# Altium integrated library Infineon_Power_IGBT.IntLib: 226 symbols (part 6 of 8)
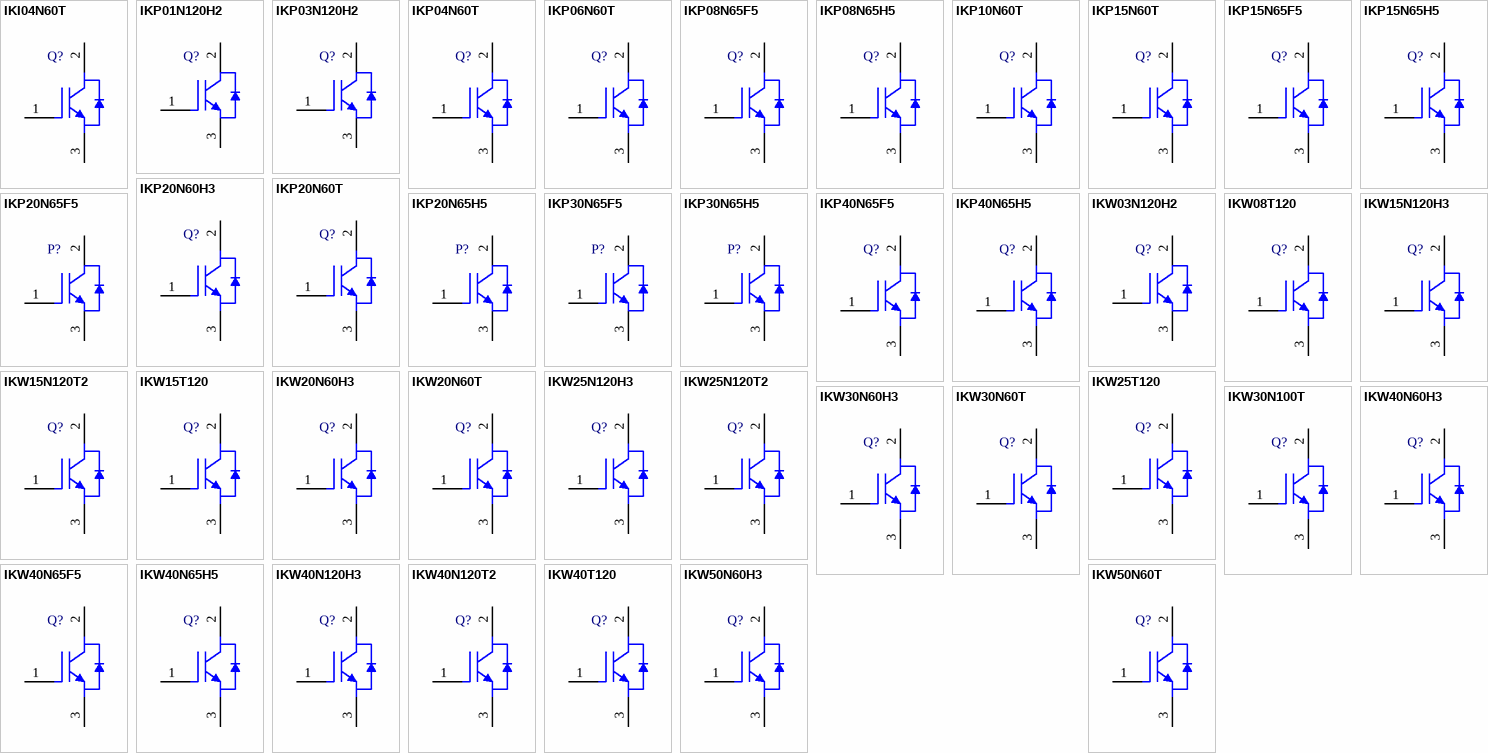
[diagram p10: symbols IKI04N60T to IKW50N60T]

## IKW50N60T
designator Q?
600 V IGBT in TrenchStop and Fieldstop Technology with Soft, Fast Recovery Anti-Parallel EmCon HE Diode, 80 A IC, -40 to 175 degC, PG-TO247-3, Tube, Green; Manufacturer: Infineon; PartNumber: IKW50N60T; Eoff (typ): 1.4 mJ; Eon (typ): 1.2 mJ; Green: TRUE; Group: IGBT with Anti-Parallel Diode; IC(max) @ 100degrees: 50 A; IC(max) @ 25degrees: 80 A; ICpuls (max): 150 A; IF (max): 100 A; Irrm (typ): 27.7 A; Ptot (max): 333 W; QGate (typ): 310 nC; Qrr (typ): 1.8 uC; Switching Frequency: TRENCHSTOP 2-20kHz; td(off) (typ): 299 ns; td(on) (typ): 26 ns; tf (typ): 29 ns; VCE (max): 600 V; VCE(sat) (typ): 1.5 V; VF (typ): 1.65 V; DatasheetVersion: Rev. 2.4; PackageVersion: Rev. 03, 12/2007; PackageReference: PG-TO247-3; PackageDescription: 3-Pin Plastic (Green) Transistor Single Outline Package, Body 20.96 x 15.865 mm, Pitch 5.44 mm; Supplier 1: Mouser; Supplier Part Number 1: 726-IKW50N60T; Supplier 2: Newark; Supplier Part Number 2: 61M6736; Supplier 3: Farnell; Supplier Part Number 3: 1471750; Supplier 4: Digi-Key; Supplier Part Number 4: IKW50N60T-ND; Halogen-free: available; IFpuls (max): 150 A; Packing: Tube; tr (typ): 29 ns; Mounting Technology: Through Hole; ComponentLink1Description: Manufacturer URL; ComponentLink1URL: http://www.infineon.com/; ComponentLink2Description: Datasheet; ComponentLink2URL: http://www.infineon.com/dgdl/IKW50N60T+Rev2_4G.pdf?folderId=db3a304412b407950112b408e8c90004&fileId=db3a304412b407950112b4288ce93e21; ComponentLink3Description: Package Specification; ComponentLink3URL: http://www.infineon.com/dgdl/IKW15T120_Rev2G_3.pdf?folderId=db3a304412b407950112b408e8c90004&fileId=db3a304412b407950112b42896343e2d&location=en.Products.IGBTs.IGBT_with_Anti-Parallel_Diode.TRENCHSTOP__IGBT_for_Hard_Switching.DATASHEET.IKW15T120_Rev2G_3.pdf
footprint INF-PG-TO247-3_V (FM, 3-Leads, Body 20.96x15.865mm, Pitch 5.44mm, Recommended)
pins: 1 G, 2 C, 3 E

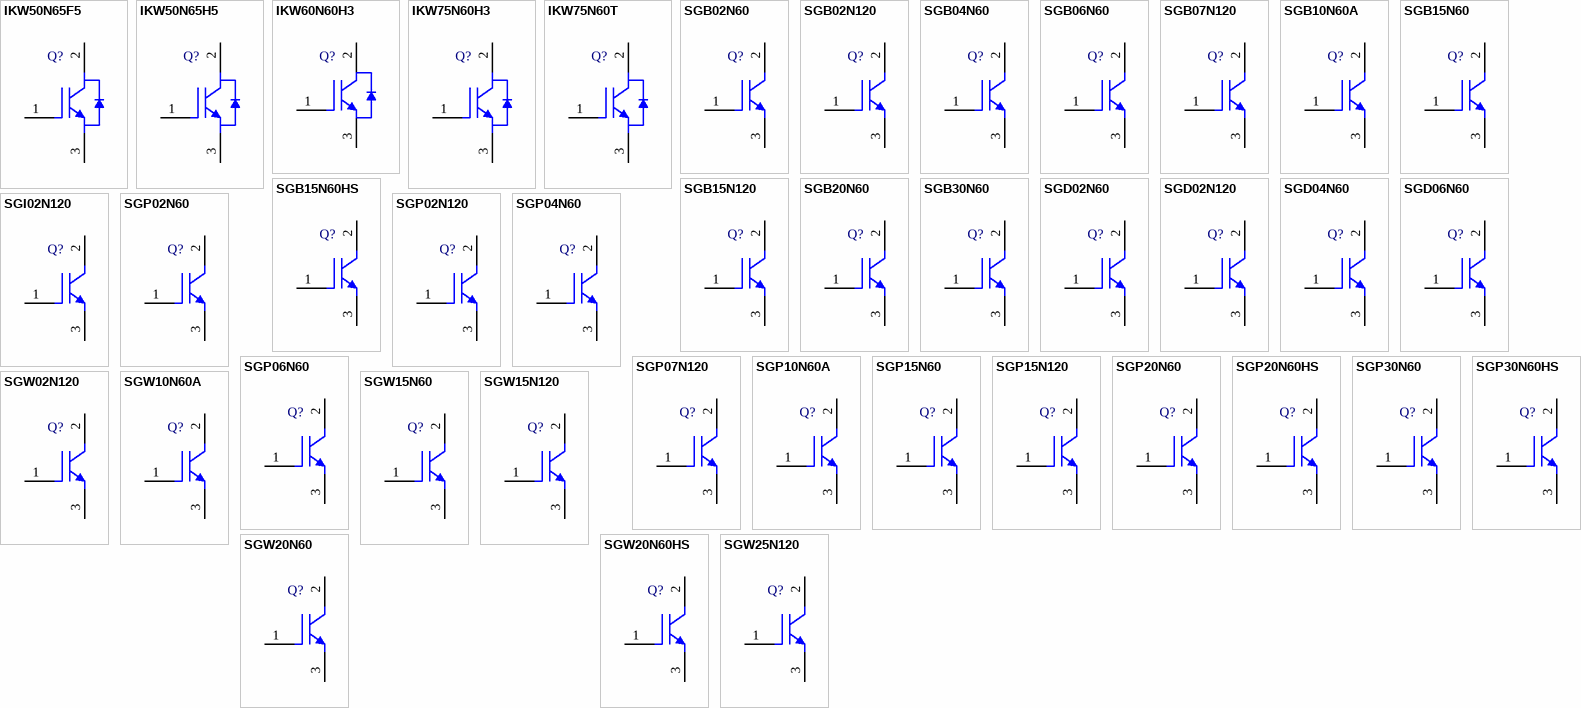
[diagram p4: symbols IKW50N65F5 to SGW25N120]

## IKW50N65F5
designator Q?
650 V DuoPack IGBT and Diode High Speed Switching Series Fifth Generation, 80 A IC, PG-TO247-3-44, Tube, Green; Manufacturer: Infineon; PartNumber: IKW50N65F5; Green: TRUE; Group: IGBT with Anti-Parallel Diode; IC(max)@ 100degrees: 56 A; IC(max)@ 25degrees: 80 A; ICpuls(max): 150 A; Irrm (typ): 16.5 A; Ptot(max): 305 W; Switching Frequency: TRENCHSTOP5 10-120 kHz; VCE(max): 650 V; VCE(sat)(typ): 1.6 V; DatasheetVersion: Rev. 1.1; PackageVersion: Rev. 03; PackageReference: PG-TO247-3-44; PackageDescription: 3-Pin Plastic (Green) Transistor Single Outline Package, 15.94 x 20.95 mm Body, 5.44 mm Pitch; Supplier 1: Newark; Supplier Part Number 1: 33X0415; Supplier 2: Farnell; Supplier Part Number 2: 2363295; Halogen-free: available; Packing: Tube; Mounting Technology: Through Hole; ComponentLink1Description: Manufacturer URL; ComponentLink1URL: http://www.infineon.com/; ComponentLink2Description: Datasheet; ComponentLink2URL: http://www.infineon.com/dgdl/DS_IKW50N65F5_1_1.pdf?folderId=db3a3043156fd5730115f56849b61941&fileId=db3a30433afc7e3e013afe09fcdb00e5&location=en.Products.IGBTs.IGBT_with_Anti-Parallel_Diode.TRENCHSTOP_5.DATASHEET.DS_IKW50N65F5_1_1.pdf; ComponentLink3Description: Package Specification; ComponentLink3URL: http://www.infineon.com/cms/packages/Leaded_and_through-hole/P-PG-TO247/P-PG-TO247-3-44.html?__locale=en
footprint INF-PG-TO247-3-44 (FM, 3-Leads, Body 5.02x15.94mm, Pitch 5.44mm)
pins: 1 G, 2 C, 3 E

## IKW50N65H5
designator Q?
650 V DuoPack IGBT and Diode High Speed Switching Series Fifth Generation, 80 A IC, PG-TO247-3-44, Tube, Green; Manufacturer: Infineon; PartNumber: IKW50N65H5; Green: TRUE; Group: IGBT with Anti-Parallel Diode; IC(max)@ 100degrees: 56 A; IC(max)@ 25degrees: 80 A; ICpuls(max): 150 A; Irrm (typ): 16.7 A; Ptot(max): 305 W; Switching Frequency: TRENCHSTOP5 10-120 kHz; VCE(max): 650 V; VCE(sat)(typ): 1.65 V; DatasheetVersion: Rev. 1.1; PackageVersion: Rev. 03; PackageReference: PG-TO247-3-44; PackageDescription: 3-Pin Plastic (Green) Transistor Single Outline Package, 15.94 x 20.95 mm Body, 5.44 mm Pitch; Supplier 1: Newark; Supplier Part Number 1: 33X0416; Supplier 2: Farnell; Supplier Part Number 2: 2363296; Halogen-free: available; Packing: Tube; Mounting Technology: Through Hole; ComponentLink1Description: Manufacturer URL; ComponentLink1URL: http://www.infineon.com/; ComponentLink2Description: Datasheet; ComponentLink2URL: http://www.infineon.com/dgdl/DS_IKW50N65H5_1_1.pdf?folderId=db3a3043156fd5730115f56849b61941&fileId=db3a30433afc7e3e013b1e3073ec5951&location=en.Products.IGBTs.IGBT_with_Anti-Parallel_Diode.TRENCHSTOP_5.DATASHEET.DS_IKW50N65H5_1_1.pdf; ComponentLink3Description: Package Specification; ComponentLink3URL: http://www.infineon.com/cms/packages/Leaded_and_through-hole/P-PG-TO247/P-PG-TO247-3-44.html?__locale=en
footprint INF-PG-TO247-3-44 (FM, 3-Leads, Body 5.02x15.94mm, Pitch 5.44mm)
pins: 1 G, 2 C, 3 E

## IKW60N60H3
designator Q?
600 V High Speed Switching Series Third Generation, PG-TO247-3-44, Tube, Green; Manufacturer: Infineon; PartNumber: IKW60N60H3; Green: TRUE; IC(max) @ 25 degC: 80 A; Switching Frequency: HighSpeed3 20-100kHz; VCE (max): 600 V; VCE(sat) (typ): 1.85 V; DatasheetVersion: Rev. 1.2; PackageVersion: Rev. 05, 07/2010; PackageReference: PG-TO247-3-44_A; PackageDescription: 3-Pin Plastic (Green) Transistor Single Outline Package, Body 15.915 x 20.95 mm, Pitch 5.44 mm; Halogen-free: FALSE; Packing: Tube; Mounting Technology: Through Hole; ComponentLink1Description: Manufacturer URL; ComponentLink1URL: http://www.infineon.com/; ComponentLink2Description: Datasheet; ComponentLink2URL: http://www.infineon.com/dgdl/IKW60N60H3_1_2.pdf?folderId=db3a3043156fd5730115f56849b61941&fileId=db3a304339dcf4b10139dd87e517004f; ComponentLink3Description: Package Specification; ComponentLink3URL: http://www.infineon.com/dgdl/IDW10S120_Rev+2.pdf?folderId=db3a304314dca38901151224afae0c96&fileId=db3a304336724dc40136789691a04aa5
footprint INF-PG-TO247-3-44_A (FM, 3-Leads, Body 15.915x5.02mm, Pitch 5.44mm)
pins: 1 G, 2 C, 3 E

## IKW75N60H3
designator Q?
600 V High Speed Switching Series Third Generation, 80 A IC, -40 to 175 degC, PG-TO247-3-44, Tube, Green; Manufacturer: Infineon; PartNumber: IKW75N60H3; Eoff (typ): 1.7 mJ; Eon (typ): 3 mJ; Green: TRUE; IC(max) @ 100degrees: 75 A; IC(max) @ 25degrees: 80 A; ICpuls (max): 225 A; IF (max): 80 A; IFpuls (max): 150 A; Irrm (typ): 19 A; QGate (typ): 470 nC; Qrr (typ): 1.8 uC; Switching Frequency: HighSpeed3 20-100kHz; td(off) (typ): 265 ns; td(on) (typ): 31 ns; tf (typ): 27 ns; tr (typ): 60 ns; VCE (max): 600 V; VCE(sat) (typ): 1.85 V; VF (typ): 1.65 V; DatasheetVersion: Rev. 1.2; PackageVersion: Rev. 03; PackageReference: PG-TO247-3-44; PackageDescription: 3-Pin Plastic (Green) Transistor Single Outline Package, 15.94 x 20.95 mm Body, 5.44 mm Pitch; Halogen-free: available; Packing: Tube; Mounting Technology: Through Hole; ComponentLink1Description: Manufacturer URL; ComponentLink1URL: http://www.infineon.com/; ComponentLink2Description: Datasheet; ComponentLink2URL: http://www.infineon.com/dgdl/IKW75N60H3_Rev1_2.pdf?folderId=db3a3043156fd5730115f56849b61941&fileId=db3a3043353cc43601353d2e3ee60056; ComponentLink3Description: Package Specification; ComponentLink3URL: http://www.infineon.com/cms/packages/Leaded_and_through-hole/P-PG-TO247/P-PG-TO247-3-44.html?__locale=en
footprint INF-PG-TO247-3-44 (FM, 3-Leads, Body 5.02x15.94mm, Pitch 5.44mm)
pins: 1 G, 2 C, 3 E

## IKW75N60T
designator Q?
600 V IGBT in TrenchStop and Fieldstop Technology with Soft, Fast Recovery Anti-Parallel EmCon HE Diode, 80 A IC, -40 to 175 degC, PG-TO247-3, Tube, Green; Manufacturer: Infineon; PartNumber: IKW75N60T; Eoff (typ): 2.5 mJ; Eon (typ): 2 mJ; Green: TRUE; Group: IGBT with Anti-Parallel Diode; IC(max) @ 100degrees: 75 A; IC(max) @ 25degrees: 80 A; ICpuls (max): 225 A; Irrm (typ): 38.5 A; Ptot (max): 428 W; QGate (typ): 470 nC; Qrr (typ): 2.4 uC; Switching Frequency: TRENCHSTOP 2-20kHz; td(off) (typ): 330 ns; td(on) (typ): 33 ns; tf (typ): 35 ns; tr (typ): 36 ns; VCE (max): 600 V; VCE(sat) (typ): 1.5 V; VF (typ): 1.65 V; DatasheetVersion: Rev. 2.6; PackageVersion: Rev. 03, 12/2007; PackageReference: PG-TO247-3; PackageDescription: 3-Pin Plastic (Green) Transistor Single Outline Package, Body 20.96 x 15.865 mm, Pitch 5.44 mm; Supplier 1: Mouser; Supplier Part Number 1: 726-IKW75N60T; Supplier 2: Newark; Supplier Part Number 2: 61M6737; Supplier 3: Farnell; Supplier Part Number 3: 1471751; Supplier 4: Digi-Key; Supplier Part Number 4: IKW75N60T-ND; Halogen-free: available; IF (max): 80 A; IFpuls (max): 225 A; Packing: Tube; Mounting Technology: Through Hole; ComponentLink1Description: Manufacturer URL; ComponentLink1URL: http://www.infineon.com/; ComponentLink2Description: Datasheet; ComponentLink2URL: http://www.infineon.com/dgdl/IKW75N60T+Rev2_6G.pdf?folderId=db3a304412b407950112b408e8c90004&fileId=db3a304412b407950112b42890113e25; ComponentLink3Description: Package Specification; ComponentLink3URL: http://www.infineon.com/dgdl/IKW15T120_Rev2G_3.pdf?folderId=db3a304412b407950112b408e8c90004&fileId=db3a304412b407950112b42896343e2d&location=en.Products.IGBTs.IGBT_with_Anti-Parallel_Diode.TRENCHSTOP__IGBT_for_Hard_Switching.DATASHEET.IKW15T120_Rev2G_3.pdf
footprint INF-PG-TO247-3_V (FM, 3-Leads, Body 20.96x15.865mm, Pitch 5.44mm, Recommended)
pins: 1 G, 2 C, 3 E

## SGB02N60
designator Q?
Fast IGBT in NPT-Technology, PG-TO-263-3-2, Reel, Green; Manufacturer: Infineon; PartNumber: SGB02N60; Green: TRUE; IC(max) @ 100 degC: 2.9 A; IC(max) @ 25 degC: 6 A; Switching Frequency: Fast IGBT 10-40 kHz; VCE (max): 600 V; VCE(sat) (typ): 2.2 V; DatasheetVersion: Rev. 2.3; PackageVersion: Rev. 01, 08/2007; PackageReference: PG-TO-263-3-2; PackageDescription: 3-Pin Plastic (Green) Transistor Single Outline Package, 10.06 x 8.98 mm Body, 2.54 mm Pitch; Supplier 1: Mouser; Supplier Part Number 1: 726-SGB02N60; Supplier 2: Digi-Key; Supplier Part Number 2: SGB02N60-ND; Halogen-free: TRUE; Packing: Reel; Mounting Technology: Surface Mount; ComponentLink1Description: Manufacturer URL; ComponentLink1URL: http://www.infineon.com/; ComponentLink2Description: Datasheet; ComponentLink2URL: http://www.infineon.com/dgdl/SGB02N60_Rev2_3.pdf?folderId=db3a304412b407950112b408e8c90004&fileId=db3a304412b407950112b4283ffb3daa; ComponentLink3Description: Package Specification; ComponentLink3URL: http://www.infineon.com/dgdl/IPB026N06N_Rev2.2.pdf?folderId=db3a304313b8b5a60113cee8763b02d7&fileId=db3a3043372d5cc8013754c7b2a74f7c
footprint INF-PG-TO-263-3-2_A_N (DPAK, 3-Leads, Body 10.06x8.98mm, Pitch 2.54mm, IPC Medium Density)
footprint INF-PG-TO-263-3-2_A_L (DPAK, 3-Leads, Body 10.06x8.98mm, Pitch 2.54mm, IPC High Density)
footprint INF-PG-TO-263-3-2_A_M (DPAK, 3-Leads, Body 10.06x8.98mm, Pitch 2.54mm, IPC Low Density)
pins: 1 G, 2 C, 3 E

## SGB02N120
designator Q?
Fast IGBT in NPT-Technology, PG-TO-263-3-2, Reel, Green; Manufacturer: Infineon; PartNumber: SGB02N120; Green: TRUE; IC(max) @ 100 degC: 2.8 A; IC(max) @ 25 degC: 6.2 A; Switching Frequency: Fast IGBT 10-40 kHz; VCE (max): 1,200 V; VCE(sat) (typ): 3.7 V; DatasheetVersion: Rev. 2.3; PackageVersion: Rev. 01, 08/2007; PackageReference: PG-TO-263-3-2; PackageDescription: 3-Pin Plastic (Green) Transistor Single Outline Package, 10.06 x 8.98 mm Body, 2.54 mm Pitch; Supplier 1: Mouser; Supplier Part Number 1: 726-SGB02N120; Supplier 2: Digi-Key; Supplier Part Number 2: SGB02N120TR-ND; Supplier 3: Digi-Key; Supplier Part Number 3: SGB02N120CT-ND; Supplier 4: Digi-Key; Supplier Part Number 4: SGB02N120DKR-ND; Halogen-free: TRUE; Packing: Reel; Mounting Technology: Surface Mount; ComponentLink1Description: Manufacturer URL; ComponentLink1URL: http://www.infineon.com/; ComponentLink2Description: Datasheet; ComponentLink2URL: http://www.infineon.com/dgdl/SGB02N120_Rev2_3.pdf?folderId=db3a304412b407950112b408e8c90004&fileId=db3a304412b407950112b42799e03c76; ComponentLink3Description: Package Specification; ComponentLink3URL: http://www.infineon.com/dgdl/IPB026N06N_Rev2.2.pdf?folderId=db3a304313b8b5a60113cee8763b02d7&fileId=db3a3043372d5cc8013754c7b2a74f7c
footprint INF-PG-TO-263-3-2_A_N (DPAK, 3-Leads, Body 10.06x8.98mm, Pitch 2.54mm, IPC Medium Density)
footprint INF-PG-TO-263-3-2_A_L (DPAK, 3-Leads, Body 10.06x8.98mm, Pitch 2.54mm, IPC High Density)
footprint INF-PG-TO-263-3-2_A_M (DPAK, 3-Leads, Body 10.06x8.98mm, Pitch 2.54mm, IPC Low Density)
pins: 1 G, 2 C, 3 E

## SGB04N60
designator Q?
Fast IGBT in NPT-Technology, PG-TO-263-3-2, Reel, Green; Manufacturer: Infineon; PartNumber: SGB04N60; Green: TRUE; IC(max) @ 100 degC: 4.9 A; IC(max) @ 25 degC: 9.4 A; Switching Frequency: Fast IGBT 10-40 kHz; VCE (max): 600 V; VCE(sat) (typ): 2 V; DatasheetVersion: Rev. 2.3; PackageVersion: Rev. 01, 08/2007; PackageReference: PG-TO-263-3-2; PackageDescription: 3-Pin Plastic (Green) Transistor Single Outline Package, 10.06 x 8.98 mm Body, 2.54 mm Pitch; Supplier 1: Mouser; Supplier Part Number 1: 726-SGB04N60; Halogen-free: FALSE; Packing: Reel; Mounting Technology: Surface Mount; ComponentLink1Description: Manufacturer URL; ComponentLink1URL: http://www.infineon.com/; ComponentLink2Description: Datasheet; ComponentLink2URL: http://www.infineon.com/dgdl/SGB04N60_Rev2_3.pdf?folderId=db3a304412b407950112b408e8c90004&fileId=db3a304412b407950112b4283a793da2; ComponentLink3Description: Package Specification; ComponentLink3URL: http://www.infineon.com/dgdl/IPB026N06N_Rev2.2.pdf?folderId=db3a304313b8b5a60113cee8763b02d7&fileId=db3a3043372d5cc8013754c7b2a74f7c
footprint INF-PG-TO-263-3-2_A_N (DPAK, 3-Leads, Body 10.06x8.98mm, Pitch 2.54mm, IPC Medium Density)
footprint INF-PG-TO-263-3-2_A_L (DPAK, 3-Leads, Body 10.06x8.98mm, Pitch 2.54mm, IPC High Density)
footprint INF-PG-TO-263-3-2_A_M (DPAK, 3-Leads, Body 10.06x8.98mm, Pitch 2.54mm, IPC Low Density)
pins: 1 G, 2 C, 3 E

## SGB06N60
designator Q?
Fast IGBT in NPT-Technology, PG-TO263-3-2, Reel, Green; Manufacturer: Infineon; PartNumber: SGB06N60; Green: TRUE; IC(max) @ 100 degC: 6.9 A; IC(max) @ 25 degC: 12 A; Switching Frequency: Fast IGBT 10-40 kHz; VCE (max): 600 V; VCE(sat) (typ): 2.3 V; DatasheetVersion: Rev. 2.2; PackageVersion: Jul-09; PackageReference: PG-TO263-3-2; PackageDescription: 3-Pin Plastic (Green) Transistor Single Outline Package, 10 x 9.25 mm Body, 2.54 mm Pitch; Supplier 1: Mouser; Supplier Part Number 1: 726-SGB06N60; Supplier 2: Digi-Key; Supplier Part Number 2: SGB06N60-ND; Halogen-free: TRUE; Packing: Reel; Mounting Technology: Surface Mount; ComponentLink1Description: Manufacturer URL; ComponentLink1URL: http://www.infineon.com/; ComponentLink2Description: Datasheet; ComponentLink2URL: http://www.infineon.com/dgdl/SGB06N60_Rev2_2.pdf?folderId=db3a304412b407950112b408e8c90004&fileId=db3a304412b407950112b42846733dbb; ComponentLink3Description: Package Specification; ComponentLink3URL: http://www.infineon.com/dgdl/BTS141TC_DS_10.pdf?folderId=db3a3043163797a6011667aa084c0e01&fileId=db3a3043242ebc9e01242f43f58b003e&location=en.Products.Automotive_ICs.Smart_High-_and_Low-Side_Switches.HITFET___TEMPFET__-_Smart_Low-Side_Switches.DATASHEET.BTS141TC_DS_10.pdf
footprint INF-PG-TO263-3-2_N (DPAK, 3-Leads, Body 10x9.25mm, Pitch 2.54mm, IPC Medium Density)
footprint INF-PG-TO263-3-2_L (DPAK, 3-Leads, Body 10x9.25mm, Pitch 2.54mm, IPC High Density)
footprint INF-PG-TO263-3-2_M (DPAK, 3-Leads, Body 10x9.25mm, Pitch 2.54mm, IPC Low Density)
pins: 1 G, 2 C, 3 E

## SGB07N120
designator Q?
Fast IGBT in NPT-Technology, PG-TO263-3-2, Reel, Green; Manufacturer: Infineon; PartNumber: SGB07N120; Green: TRUE; IC(max) @ 100 degC: 7.9 A; IC(max) @ 25 degC: 16.5 A; Switching Frequency: Fast IGBT 10-40 kHz; VCE (max): 1,200 V; VCE(sat) (typ): 3.7 V; DatasheetVersion: Rev. 2.2; PackageVersion: Jul-09; PackageReference: PG-TO263-3-2; PackageDescription: 3-Pin Plastic (Green) Transistor Single Outline Package, 10 x 9.25 mm Body, 2.54 mm Pitch; Supplier 1: Mouser; Supplier Part Number 1: 726-SGB07N120; Supplier 2: Digi-Key; Supplier Part Number 2: SGB07N120-ND; Halogen-free: TRUE; Packing: Reel; Mounting Technology: Surface Mount; ComponentLink1Description: Manufacturer URL; ComponentLink1URL: http://www.infineon.com/; ComponentLink2Description: Datasheet; ComponentLink2URL: http://www.infineon.com/dgdl/SGB07N120_Rev2_2.pdf?folderId=db3a304412b407950112b408e8c90004&fileId=db3a304412b407950112b428344c3d97; ComponentLink3Description: Package Specification; ComponentLink3URL: http://www.infineon.com/dgdl/BTS141TC_DS_10.pdf?folderId=db3a3043163797a6011667aa084c0e01&fileId=db3a3043242ebc9e01242f43f58b003e&location=en.Products.Automotive_ICs.Smart_High-_and_Low-Side_Switches.HITFET___TEMPFET__-_Smart_Low-Side_Switches.DATASHEET.BTS141TC_DS_10.pdf
footprint INF-PG-TO263-3-2_N (DPAK, 3-Leads, Body 10x9.25mm, Pitch 2.54mm, IPC Medium Density)
footprint INF-PG-TO263-3-2_L (DPAK, 3-Leads, Body 10x9.25mm, Pitch 2.54mm, IPC High Density)
footprint INF-PG-TO263-3-2_M (DPAK, 3-Leads, Body 10x9.25mm, Pitch 2.54mm, IPC Low Density)
pins: 1 G, 2 C, 3 E

## SGB10N60A
designator Q?
Fast IGBT in NPT-Technology, PG-TO263-3-2, Reel, Green; Manufacturer: Infineon; PartNumber: SGB10N60A; Green: TRUE; IC(max) @ 100 degC: 10.6 A; IC(max) @ 25 degC: 20 A; Switching Frequency: Fast IGBT 10-40 kHz; VCE (max): 600 V; VCE(sat) (typ): 2.3 V; DatasheetVersion: Rev. 2.3; PackageVersion: Jul-09; PackageReference: PG-TO263-3-2; PackageDescription: 3-Pin Plastic (Green) Transistor Single Outline Package, 10 x 9.25 mm Body, 2.54 mm Pitch; Supplier 1: Mouser; Supplier Part Number 1: 726-SGB10N60A; Supplier 2: Digi-Key; Supplier Part Number 2: SGB10N60A-ND; Halogen-free: TRUE; Packing: Reel; Mounting Technology: Surface Mount; ComponentLink1Description: Manufacturer URL; ComponentLink1URL: http://www.infineon.com/; ComponentLink2Description: Datasheet; ComponentLink2URL: http://www.infineon.com/dgdl/SGB10N60A_Rev2_3.pdf?folderId=db3a304412b407950112b408e8c90004&fileId=db3a304412b407950112b42786bc3c57; ComponentLink3Description: Package Specification; ComponentLink3URL: http://www.infineon.com/dgdl/BTS141TC_DS_10.pdf?folderId=db3a3043163797a6011667aa084c0e01&fileId=db3a3043242ebc9e01242f43f58b003e&location=en.Products.Automotive_ICs.Smart_High-_and_Low-Side_Switches.HITFET___TEMPFET__-_Smart_Low-Side_Switches.DATASHEET.BTS141TC_DS_10.pdf
footprint INF-PG-TO263-3-2_N (DPAK, 3-Leads, Body 10x9.25mm, Pitch 2.54mm, IPC Medium Density)
footprint INF-PG-TO263-3-2_L (DPAK, 3-Leads, Body 10x9.25mm, Pitch 2.54mm, IPC High Density)
footprint INF-PG-TO263-3-2_M (DPAK, 3-Leads, Body 10x9.25mm, Pitch 2.54mm, IPC Low Density)
pins: 1 G, 2 C, 3 E

## SGB15N60
designator Q?
Fast IGBT in NPT-Technology , PG-TO-263-3-2, Reel, Green; Manufacturer: Infineon; PartNumber: SGB15N60; Green: TRUE; IC(max) @ 100 degC: 15 A; IC(max) @ 25 degC: 31 A; Switching Frequency: Fast IGBT 10-40 kHz; VCE (max): 600 V; VCE(sat) (typ): 2.3 V; DatasheetVersion: Rev. 2.3; PackageVersion: Rev. 01, 08/2007; PackageReference: PG-TO-263-3-2; PackageDescription: 3-Pin Plastic (Green) Transistor Single Outline Package, 10.055 x 8.98 mm Body, 2.54 mm Pitch; Supplier 1: Mouser; Supplier Part Number 1: 726-SGB15N60; Supplier 2: Digi-Key; Supplier Part Number 2: SGB15N60-ND; Halogen-free: TRUE; Packing: Reel; Mounting Technology: Surface Mount; ComponentLink1Description: Manufacturer URL; ComponentLink1URL: http://www.infineon.com/; ComponentLink2Description: Datasheet; ComponentLink2URL: http://www.infineon.com/dgdl/SGB15N60_Rev2_3G.pdf?folderId=db3a304412b407950112b408e8c90004&fileId=db3a304412b407950112b4278c4a3c62; ComponentLink3Description: Package Specification; ComponentLink3URL: http://www.infineon.com/dgdl/IGB01N120H2_Rev2_4G.pdf?folderId=db3a304412b407950112b408e8c90004&fileId=db3a304412b407950112b427a4883c86
footprint INF-PG-TO-263-3-2_N (DPAK, 3-Leads, Body 10.05x8.98mm, Pitch 2.54mm, IPC Medium Density)
footprint INF-PG-TO-263-3-2_L (DPAK, 3-Leads, Body 10.055x8.98mm, Pitch 2.54mm, IPC High Density)
footprint INF-PG-TO-263-3-2_M (DPAK, 3-Leads, Body 10.05x8.98mm, Pitch 2.54mm, IPC Low Density)
pins: 1 G, 2 C, 3 E

## SGB15N60HS
designator Q?
High Speed IGBT in NPT-Technology, PG-TO-263-3-2, Reel, Green; Manufacturer: Infineon; PartNumber: SGB15N60HS; Green: TRUE; IC(max) @ 100 degC: 15 A; IC(max) @ 25 degC: 27 A; Switching Frequency: HighSpeed 30-100 kHz; VCE (max): 600 V; VCE(sat) (typ): 3.5 V; DatasheetVersion: Rev. 2.3; PackageVersion: Rev. 01, 08/2007; PackageReference: PG-TO-263-3-2; PackageDescription: 3-Pin Plastic (Green) Transistor Single Outline Package, 10.055 x 8.98 mm Body, 2.54 mm Pitch; Supplier 1: Mouser; Supplier Part Number 1: 726-SGB15N60HS; Supplier 2: Digi-Key; Supplier Part Number 2: SGB15N60HS-ND; Halogen-free: TRUE; Packing: Reel; Mounting Technology: Surface Mount; ComponentLink1Description: Manufacturer URL; ComponentLink1URL: http://www.infineon.com/; ComponentLink2Description: Datasheet; ComponentLink2URL: http://www.infineon.com/dgdl/SGB15N60HS_Rev2_3.pdf?folderId=db3a304412b407950112b408e8c90004&fileId=db3a304412b407950112b428495c3dbf; ComponentLink3Description: Package Specification; ComponentLink3URL: http://www.infineon.com/dgdl/IGB01N120H2_Rev2_4G.pdf?folderId=db3a304412b407950112b408e8c90004&fileId=db3a304412b407950112b427a4883c86
footprint INF-PG-TO-263-3-2_N (DPAK, 3-Leads, Body 10.05x8.98mm, Pitch 2.54mm, IPC Medium Density)
footprint INF-PG-TO-263-3-2_L (DPAK, 3-Leads, Body 10.055x8.98mm, Pitch 2.54mm, IPC High Density)
footprint INF-PG-TO-263-3-2_M (DPAK, 3-Leads, Body 10.05x8.98mm, Pitch 2.54mm, IPC Low Density)
pins: 1 G, 2 C, 3 E

## SGB15N120
designator Q?
Fast IGBT in NPT-Technology , PG-TO263-3-2, Reel, Green; Manufacturer: Infineon; PartNumber: SGB15N120; Green: TRUE; IC(max) @ 100 degC: 15 A; IC(max) @ 25 degC: 30 A; Switching Frequency: Fast IGBT 10-40 kHz; VCE (max): 1,200 V; VCE(sat) (typ): 3.7 V; DatasheetVersion: Rev. 2.2; PackageVersion: Jul-09; PackageReference: PG-TO263-3-2; PackageDescription: 3-Pin Plastic (Green) Transistor Single Outline Package, 10 x 9.25 mm Body, 2.54 mm Pitch; Supplier 1: Mouser; Supplier Part Number 1: 726-SGB15N120; Supplier 2: Digi-Key; Supplier Part Number 2: SGB15N120-ND; Halogen-free: TRUE; Packing: Reel; Mounting Technology: Surface Mount; ComponentLink1Description: Manufacturer URL; ComponentLink1URL: http://www.infineon.com/; ComponentLink2Description: Datasheet; ComponentLink2URL: http://www.infineon.com/dgdl/SGB15N120_Rev2_2.pdf?folderId=db3a304412b407950112b408e8c90004&fileId=db3a304412b407950112b4279ebd3c7e; ComponentLink3Description: Package Specification; ComponentLink3URL: http://www.infineon.com/dgdl/BTS141TC_DS_10.pdf?folderId=db3a3043163797a6011667aa084c0e01&fileId=db3a3043242ebc9e01242f43f58b003e&location=en.Products.Automotive_ICs.Smart_High-_and_Low-Side_Switches.HITFET___TEMPFET__-_Smart_Low-Side_Switches.DATASHEET.BTS141TC_DS_10.pdf
footprint INF-PG-TO263-3-2_N (DPAK, 3-Leads, Body 10x9.25mm, Pitch 2.54mm, IPC Medium Density)
footprint INF-PG-TO263-3-2_L (DPAK, 3-Leads, Body 10x9.25mm, Pitch 2.54mm, IPC High Density)
footprint INF-PG-TO263-3-2_M (DPAK, 3-Leads, Body 10x9.25mm, Pitch 2.54mm, IPC Low Density)
pins: 1 G, 2 C, 3 E

## SGB20N60
designator Q?
Fast IGBT in NPT-Technology , PG-TO-263-3-2, Reel, Green; Manufacturer: Infineon; PartNumber: SGB20N60; Green: TRUE; IC(max) @ 100 degC: 20 A; IC(max) @ 25 degC: 40 A; Switching Frequency: Fast IGBT 10-40 kHz; VCE (max): 600 V; VCE(sat) (typ): 2 V; DatasheetVersion: Rev. 2.2; PackageVersion: Rev. 01, 08/2007; PackageReference: PG-TO-263-3-2; PackageDescription: 3-Pin Plastic (Green) Transistor Single Outline Package, 10.055 x 8.98 mm Body, 2.54 mm Pitch; Supplier 1: Mouser; Supplier Part Number 1: 726-SGB20N60; Supplier 2: Digi-Key; Supplier Part Number 2: SGB20N60-ND; Halogen-free: TRUE; Packing: Reel; Mounting Technology: Surface Mount; ComponentLink1Description: Manufacturer URL; ComponentLink1URL: http://www.infineon.com/; ComponentLink2Description: Datasheet; ComponentLink2URL: http://www.infineon.com/dgdl/SGB20N60_Rev2_2.pdf?folderId=db3a304412b407950112b408e8c90004&fileId=db3a304412b407950112b4282acd3d7f; ComponentLink3Description: Package Specification; ComponentLink3URL: http://www.infineon.com/dgdl/IGB01N120H2_Rev2_4G.pdf?folderId=db3a304412b407950112b408e8c90004&fileId=db3a304412b407950112b427a4883c86
footprint INF-PG-TO-263-3-2_N (DPAK, 3-Leads, Body 10.05x8.98mm, Pitch 2.54mm, IPC Medium Density)
footprint INF-PG-TO-263-3-2_L (DPAK, 3-Leads, Body 10.055x8.98mm, Pitch 2.54mm, IPC High Density)
footprint INF-PG-TO-263-3-2_M (DPAK, 3-Leads, Body 10.05x8.98mm, Pitch 2.54mm, IPC Low Density)
pins: 1 G, 2 C, 3 E

## SGB30N60
designator Q?
Fast IGBT in NPT-Technology , PG-TO-263-3-2, Reel, Green; Manufacturer: Infineon; PartNumber: SGB30N60; Green: TRUE; IC(max) @ 100 degC: 30 A; IC(max) @ 25 degC: 41 A; Switching Frequency: Fast IGBT 10-40 kHz; VCE (max): 600 V; VCE(sat) (typ): 2.1 V; DatasheetVersion: Rev. 2.3; PackageVersion: Rev. 01, 08/2007; PackageReference: PG-TO-263-3-2; PackageDescription: 3-Pin Plastic (Green) Transistor Single Outline Package, 10.055 x 8.98 mm Body, 2.54 mm Pitch; Supplier 1: Mouser; Supplier Part Number 1: 726-SGB30N60; Supplier 2: Digi-Key; Supplier Part Number 2: SGB30N60-ND; Halogen-free: TRUE; Packing: Reel; Mounting Technology: Surface Mount; ComponentLink1Description: Manufacturer URL; ComponentLink1URL: http://www.infineon.com/; ComponentLink2Description: Datasheet; ComponentLink2URL: http://www.infineon.com/dgdl/SGB30N60_Rev2_3.pdf?folderId=db3a304412b407950112b408e8c90004&fileId=db3a304412b407950112b42794233c6e; ComponentLink3Description: Package Specification; ComponentLink3URL: http://www.infineon.com/dgdl/IGB01N120H2_Rev2_4G.pdf?folderId=db3a304412b407950112b408e8c90004&fileId=db3a304412b407950112b427a4883c86
footprint INF-PG-TO-263-3-2_N (DPAK, 3-Leads, Body 10.05x8.98mm, Pitch 2.54mm, IPC Medium Density)
footprint INF-PG-TO-263-3-2_L (DPAK, 3-Leads, Body 10.055x8.98mm, Pitch 2.54mm, IPC High Density)
footprint INF-PG-TO-263-3-2_M (DPAK, 3-Leads, Body 10.05x8.98mm, Pitch 2.54mm, IPC Low Density)
pins: 1 G, 2 C, 3 E

## SGD02N60
designator Q?
Fast IGBT in NPT-Technology , PG-TO-252-3-11, Reel, Green; Manufacturer: Infineon; PartNumber: SGD02N60; Green: TRUE; IC(max) @ 100 degC: 2.9 A; IC(max) @ 25 degC: 6 A; Switching Frequency: Fast IGBT 10-40 kHz; VCE (max): 600 V; VCE(sat) (typ): 2.2 V; DatasheetVersion: Rev. 2.3; PackageVersion: Rev. 02, 03/2007; PackageReference: PG-TO252-3-11; PackageDescription: 3-Pin Plastic (Green) Transistor Single Outline Package, 6.57 x 6.1 mm Body, 2.29 mm Pitch; Supplier 1: Mouser; Supplier Part Number 1: 726-SGD02N60; Supplier 2: Digi-Key; Supplier Part Number 2: SGD02N60-ND; Halogen-free: FALSE; Packing: Reel; Mounting Technology: Surface Mount; ComponentLink1Description: Manufacturer URL; ComponentLink1URL: http://www.infineon.com/; ComponentLink2Description: Datasheet; ComponentLink2URL: http://www.infineon.com/dgdl/SGP_D02N60_Rev2_3G.pdf?folderId=db3a304412b407950112b408e8c90004&fileId=db3a304412b407950112b4283d5e3da6; ComponentLink3Description: Package Specification; ComponentLink3URL: http://www.infineon.com/dgdl/IPD160N04L_rev1.0.pdf?folderId=db3a3043163797a6011643468e7505a4&fileId=db3a3043163797a60116436401cf05cf
footprint INF-PG-TO252-3-11_A_N (DPAK, 3-Leads, Body 6.57x6.1mm, Pitch 2.29mm, IPC Medium Density)
footprint INF-PG-TO252-3-11_A_L (DPAK, 3-Leads, Body 6.57x6.1mm, Pitch 2.29mm, IPC High Density)
footprint INF-PG-TO252-3-11_A_M (DPAK, 3-Leads, Body 6.57x6.1mm, Pitch 2.29mm, IPC Low Density)
pins: 1 G, 2 C, 3 E

## SGD02N120
designator Q?
Fast IGBT in NPT-Technology , PG-TO-252-3-11, Reel, Green; Manufacturer: Infineon; PartNumber: SGD02N120; Green: TRUE; IC(max) @ 100 degC: 2.8 A; IC(max) @ 25 degC: 6.2 A; Switching Frequency: Fast IGBT 10-40 kHz; VCE (max): 1,200 V; VCE(sat) (typ): 3.7 V; DatasheetVersion: Rev. 2.3; PackageVersion: Rev. 02, 03/2007; PackageReference: PG-TO252-3-11; PackageDescription: 3-Pin Plastic (Green) Transistor Single Outline Package, 6.57 x 6.1 mm Body, 2.29 mm Pitch; Supplier 1: Mouser; Supplier Part Number 1: 726-SGD02N120; Supplier 2: Digi-Key; Supplier Part Number 2: SGD02N120TR-ND; Supplier 3: Digi-Key; Supplier Part Number 3: SGD02N120CT-ND; Supplier 4: Digi-Key; Supplier Part Number 4: SGD02N120DKR-ND; Halogen-free: FALSE; Packing: Reel; Mounting Technology: Surface Mount; ComponentLink1Description: Manufacturer URL; ComponentLink1URL: http://www.infineon.com/; ComponentLink2Description: Datasheet; ComponentLink2URL: http://www.infineon.com/dgdl/SGP_D_I02N120_Rev2_3G.pdf?folderId=db3a304412b407950112b408e8c90004&fileId=db3a304412b407950112b42796f63c72; ComponentLink3Description: Package Specification; ComponentLink3URL: http://www.infineon.com/dgdl/IPD160N04L_rev1.0.pdf?folderId=db3a3043163797a6011643468e7505a4&fileId=db3a3043163797a60116436401cf05cf
footprint INF-PG-TO252-3-11_A_N (DPAK, 3-Leads, Body 6.57x6.1mm, Pitch 2.29mm, IPC Medium Density)
footprint INF-PG-TO252-3-11_A_L (DPAK, 3-Leads, Body 6.57x6.1mm, Pitch 2.29mm, IPC High Density)
footprint INF-PG-TO252-3-11_A_M (DPAK, 3-Leads, Body 6.57x6.1mm, Pitch 2.29mm, IPC Low Density)
pins: 1 G, 2 C, 3 E

## SGD04N60
designator Q?
Fast IGBT in NPT-Technology, PG-TO-252-3-11, Reel, Green; Manufacturer: Infineon; PartNumber: SGD04N60; Green: TRUE; IC(max) @ 100 degC: 4.9 A; IC(max) @ 25 degC: 9.4 A; Switching Frequency: Fast IGBT 10-40 kHz; VCE (max): 600 V; VCE(sat) (typ): 2 V; DatasheetVersion: Rev. 2.2; PackageVersion: Rev. 02, 03/2007; PackageReference: PG-TO252-3-11; PackageDescription: 3-Pin Plastic (Green) Transistor Single Outline Package, 6.57 x 6.1 mm Body, 2.29 mm Pitch; Supplier 1: Mouser; Supplier Part Number 1: 726-SGD04N60; Supplier 2: Digi-Key; Supplier Part Number 2: SGD04N60-ND; Halogen-free: FALSE; Packing: Reel; Mounting Technology: Surface Mount; ComponentLink1Description: Manufacturer URL; ComponentLink1URL: http://www.infineon.com/; ComponentLink2Description: Datasheet; ComponentLink2URL: http://www.infineon.com/dgdl/SGP_D04N60_Rev2_2G.pdf?folderId=db3a304412b407950112b408e8c90004&fileId=db3a304412b407950112b428433c3db1; ComponentLink3Description: Package Specification; ComponentLink3URL: http://www.infineon.com/dgdl/IPD160N04L_rev1.0.pdf?folderId=db3a3043163797a6011643468e7505a4&fileId=db3a3043163797a60116436401cf05cf
footprint INF-PG-TO252-3-11_A_N (DPAK, 3-Leads, Body 6.57x6.1mm, Pitch 2.29mm, IPC Medium Density)
footprint INF-PG-TO252-3-11_A_L (DPAK, 3-Leads, Body 6.57x6.1mm, Pitch 2.29mm, IPC High Density)
footprint INF-PG-TO252-3-11_A_M (DPAK, 3-Leads, Body 6.57x6.1mm, Pitch 2.29mm, IPC Low Density)
pins: 1 G, 2 C, 3 E

## SGD06N60
designator Q?
Fast IGBT in NPT-Technology, PG-TO252-3-11, Reel, Green; Manufacturer: Infineon; PartNumber: SGD06N60; Green: TRUE; IC(max) @ 100 degC: 6.9 A; IC(max) @ 25 degC: 12 A; Switching Frequency: Fast IGBT 10-40 kHz; VCE (max): 600 V; VCE(sat) (typ): 2 V; DatasheetVersion: Rev. 2.2; PackageVersion: Dec-06; PackageReference: PG-TO252-3-11; PackageDescription: 3-Pin Plastic (Green) Transistor Single Outline Package, 6.5 x 6.12 mm Body, 2.28 mm Pitch; Supplier 1: Mouser; Supplier Part Number 1: 726-SGD06N60; Supplier 2: Digi-Key; Supplier Part Number 2: SGD06N60-ND; Halogen-free: FALSE; Packing: Reel; Mounting Technology: Surface Mount; ComponentLink1Description: Manufacturer URL; ComponentLink1URL: http://www.infineon.com/; ComponentLink2Description: Datasheet; ComponentLink2URL: http://www.infineon.com/dgdl/SGP_D06N60_Rev2_2G.pdf?folderId=db3a304412b407950112b408e8c90004&fileId=db3a304412b407950112b42783b13c53; ComponentLink3Description: Package Specification; ComponentLink3URL: http://www.infineon.com/dgdl/BTS142_DS_13.pdf?folderId=db3a3043163797a6011667aa084c0e01&fileId=db3a3043163797a6011667ac98be0e02&location=en.Products.Automotive_ICs.Smart_High-_and_Low-Side_Switches.HITFET___TEMPFET__-_Smart_Low-Side_Switches.DATASHEET.BTS142_DS_13.pdf
footprint INF-PG-TO252-3-11_N (DPAK, 3-Leads, Body 6.5x6.12mm, Pitch 2.28mm, IPC Medium Density)
footprint INF-PG-TO252-3-11_L (DPAK, 3-Leads, Body 6.5x6.12mm, Pitch 2.28mm, IPC High Density)
footprint INF-PG-TO252-3-11_M (DPAK, 3-Leads, Body 6.5x6.12mm, Pitch 2.28mm, IPC Low Density)
pins: 1 G, 2 C, 3 E

## SGI02N120
designator Q?
Fast IGBT in NPT-Technology, PG-TO-262-3-1, Tube, Green; Manufacturer: Infineon; PartNumber: SGI02N120; Green: TRUE; IC(max) @ 100 degC: 2.8 A; IC(max) @ 25 degC: 6.2 A; Switching Frequency: Fast IGBT 10-40 kHz; VCE (max): 1,200 V; VCE(sat) (typ): 3.1 V; DatasheetVersion: Rev. 2.3; PackageVersion: Jun-05; PackageReference: PG-TO-262-3-1; PackageDescription: 3-Pin Plastic (Green) Transistor Single Outline Package, 10 x 9.25 mm Body, 2.54 mm Pitch; Supplier 1: Mouser; Supplier Part Number 1: 726-SGI02N120; Supplier 2: Digi-Key; Supplier Part Number 2: SGI02N120-ND; Halogen-free: TRUE; Packing: Tube; Mounting Technology: Through Hole; ComponentLink1Description: Manufacturer URL; ComponentLink1URL: http://www.infineon.com/; ComponentLink2Description: Datasheet; ComponentLink2URL: http://www.infineon.com/dgdl/SGP_D_I02N120_Rev2_3G%5B1%5D.pdf?folderId=db3a3043156fd5730115f56849b61941&fileId=db3a304323b87bc20123bc7bb8f13500; ComponentLink3Description: Package Specification; ComponentLink3URL: http://www.infineon.com/dgdl/IPP04CN10N_Rev1.4.pdf?folderId=db3a304313b8b5a60113cee8763b02d7&fileId=db3a30432313ff5e012393a80d1d03d8
footprint INF-PG-TO-262-3-1 (FM, 3-Leads, Body 10x4.4mm, Pitch 2.54mm)
pins: 1 G, 2 C, 3 E

## SGP02N60
designator Q?
Fast IGBT in NPT-Technology, PG-TO220-3-1, Tube, Green; Manufacturer: Infineon; PartNumber: SGP02N60; Green: TRUE; IC(max) @ 100 degC: 2.9 A; IC(max) @ 25 degC: 6 A; Switching Frequency: Fast IGBT 10-40 kHz; VCE (max): 600 V; VCE(sat) (typ): 2.2 V; DatasheetVersion: Rev. 2.3; PackageVersion: Jul-12; PackageReference: PG-TO220-3-1; PackageDescription: 3-Pin Plastic (Green) Transistor Single Outline Package, 10 x 9.25 mm Body, 2.54 mm Pitch; Supplier 1: Mouser; Supplier Part Number 1: 726-SGP02N60; Supplier 2: Digi-Key; Supplier Part Number 2: SGP02N60-ND; Halogen-free: TRUE; Packing: Tube; Mounting Technology: Through Hole; ComponentLink1Description: Manufacturer URL; ComponentLink1URL: http://www.infineon.com/; ComponentLink2Description: Datasheet; ComponentLink2URL: http://www.infineon.com/dgdl/SGP_D02N60_Rev2_3G%5B1%5D.pdf?folderId=db3a3043156fd5730115f56849b61941&fileId=db3a304323b87bc20123b88e275f0009; ComponentLink3Description: Package Specification; ComponentLink3URL: http://www.infineon.com/dgdl/BTS117_DS_14.pdf?folderId=db3a30431400ef68011421b54e2e0564&fileId=db3a30433a747525013abff8302d549c&location=en.Products.Automotive_ICs.Smart_High-_and_Low-Side_Switches.HITFET___TEMPFET__-_Smart_Low-Side_Switches.DATASHEET.BTS117_DS_14.pdf
footprint INF-PG-TO220-3-1 (FM, 3-Leads, Body 10x4.4mm, Pitch 2.54mm)
pins: 1 G, 2 C, 3 E

## SGP02N120
designator Q?
Fast IGBT in NPT-Technology, PG-TO220-3-1, Tube, Green; Manufacturer: Infineon; PartNumber: SGP02N120; Green: TRUE; IC(max) @ 100 degC: 2.8 A; IC(max) @ 25 degC: 6.2 A; Switching Frequency: Fast IGBT 10-40 kHz; VCE (max): 1,200 V; VCE(sat) (typ): 3.7 V; DatasheetVersion: Rev. 2.3; PackageVersion: Jul-12; PackageReference: PG-TO220-3-1; PackageDescription: 3-Pin Plastic (Green) Transistor Single Outline Package, 10 x 9.25 mm Body, 2.54 mm Pitch; Supplier 1: Mouser; Supplier Part Number 1: 726-SGP02N120; Supplier 2: Newark; Supplier Part Number 2: 88W0771; Supplier 3: Farnell; Supplier Part Number 3: 2212816; Supplier 4: Digi-Key; Supplier Part Number 4: SGP02N120-ND; Halogen-free: TRUE; Packing: Tube; Mounting Technology: Through Hole; ComponentLink1Description: Manufacturer URL; ComponentLink1URL: http://www.infineon.com/; ComponentLink2Description: Datasheet; ComponentLink2URL: http://www.infineon.com/dgdl/SGP_D_I02N120_Rev2_3G%5B1%5D.pdf?folderId=db3a3043156fd5730115f56849b61941&fileId=db3a304323b87bc20123bc7bb8f13500; ComponentLink3Description: Package Specification; ComponentLink3URL: http://www.infineon.com/dgdl/BTS117_DS_14.pdf?folderId=db3a30431400ef68011421b54e2e0564&fileId=db3a30433a747525013abff8302d549c&location=en.Products.Automotive_ICs.Smart_High-_and_Low-Side_Switches.HITFET___TEMPFET__-_Smart_Low-Side_Switches.DATASHEET.BTS117_DS_14.pdf
footprint INF-PG-TO220-3-1 (FM, 3-Leads, Body 10x4.4mm, Pitch 2.54mm)
pins: 1 G, 2 C, 3 E

## SGP04N60
designator Q?
Fast IGBT in NPT-Technology, PG-TO220-3-1, Tube, Green; Manufacturer: Infineon; PartNumber: SGP04N60; Green: TRUE; IC(max) @ 100 degC: 4.9 A; IC(max) @ 25 degC: 9.4 A; Switching Frequency: Fast IGBT 10-40 kHz; VCE (max): 600 V; VCE(sat) (typ): 2.3 V; DatasheetVersion: Rev. 2.2; PackageVersion: Jul-12; PackageReference: PG-TO220-3-1; PackageDescription: 3-Pin Plastic (Green) Transistor Single Outline Package, 10 x 9.25 mm Body, 2.54 mm Pitch; Supplier 1: Mouser; Supplier Part Number 1: 726-SGP04N60; Supplier 2: Digi-Key; Supplier Part Number 2: SGP04N60-ND; Halogen-free: TRUE; Packing: Tube; Mounting Technology: Through Hole; ComponentLink1Description: Manufacturer URL; ComponentLink1URL: http://www.infineon.com/; ComponentLink2Description: Datasheet; ComponentLink2URL: http://www.infineon.com/dgdl/SGP_D04N60_Rev2_2G%5B1%5D.pdf?folderId=db3a3043156fd5730115f56849b61941&fileId=db3a304323b87bc20123b894abf9001e; ComponentLink3Description: Package Specification; ComponentLink3URL: http://www.infineon.com/dgdl/BTS117_DS_14.pdf?folderId=db3a30431400ef68011421b54e2e0564&fileId=db3a30433a747525013abff8302d549c&location=en.Products.Automotive_ICs.Smart_High-_and_Low-Side_Switches.HITFET___TEMPFET__-_Smart_Low-Side_Switches.DATASHEET.BTS117_DS_14.pdf
footprint INF-PG-TO220-3-1 (FM, 3-Leads, Body 10x4.4mm, Pitch 2.54mm)
pins: 1 G, 2 C, 3 E

## SGP06N60
designator Q?
Fast IGBT in NPT-Technology, PG-TO220-3-1, Tube, Green; Manufacturer: Infineon; PartNumber: SGP06N60; Green: TRUE; IC(max) @ 100 degC: 6.9 A; IC(max) @ 25 degC: 12 A; Switching Frequency: Fast IGBT 10-40 kHz; VCE (max): 600 V; VCE(sat) (typ): 2.3 V; DatasheetVersion: Rev. 2.2; PackageVersion: Jul-12; PackageReference: PG-TO220-3-1; PackageDescription: 3-Pin Plastic (Green) Transistor Single Outline Package, 10 x 9.25 mm Body, 2.54 mm Pitch; Supplier 1: Mouser; Supplier Part Number 1: 726-SGP06N60; Supplier 2: Digi-Key; Supplier Part Number 2: SGP06N60-ND; Halogen-free: TRUE; Packing: Tube; Mounting Technology: Through Hole; ComponentLink1Description: Manufacturer URL; ComponentLink1URL: http://www.infineon.com/; ComponentLink2Description: Datasheet; ComponentLink2URL: http://www.infineon.com/dgdl/SGP_D06N60_Rev2_2G%5B1%5D.pdf?folderId=db3a3043156fd5730115f56849b61941&fileId=db3a304323b87bc20123b8ac8ec30033; ComponentLink3Description: Package Specification; ComponentLink3URL: http://www.infineon.com/dgdl/BTS117_DS_14.pdf?folderId=db3a30431400ef68011421b54e2e0564&fileId=db3a30433a747525013abff8302d549c&location=en.Products.Automotive_ICs.Smart_High-_and_Low-Side_Switches.HITFET___TEMPFET__-_Smart_Low-Side_Switches.DATASHEET.BTS117_DS_14.pdf
footprint INF-PG-TO220-3-1 (FM, 3-Leads, Body 10x4.4mm, Pitch 2.54mm)
pins: 1 G, 2 C, 3 E

## SGP07N120
designator Q?
Fast IGBT in NPT-Technology, PG-TO220-3-1, Tube, Green; Manufacturer: Infineon; PartNumber: SGP07N120; Green: TRUE; IC(max) @ 100 degC: 7.9 A; IC(max) @ 25 degC: 16.5 A; Switching Frequency: Fast IGBT 10-40 kHz; VCE (max): 1,200 V; VCE(sat) (typ): 3.7 V; DatasheetVersion: Rev. 2.3; PackageVersion: Jul-12; PackageReference: PG-TO220-3-1; PackageDescription: 3-Pin Plastic (Green) Transistor Single Outline Package, 10 x 9.25 mm Body, 2.54 mm Pitch; Supplier 1: Mouser; Supplier Part Number 1: 726-SGP07N120; Supplier 2: Digi-Key; Supplier Part Number 2: SGP07N120-ND; Halogen-free: TRUE; Packing: Tube; Mounting Technology: Through Hole; ComponentLink1Description: Manufacturer URL; ComponentLink1URL: http://www.infineon.com/; ComponentLink2Description: Datasheet; ComponentLink2URL: http://www.infineon.com/dgdl/SGP07N120_Rev2_3G%5B1%5D.pdf?folderId=db3a3043156fd5730115f56849b61941&fileId=db3a304323b87bc20123bc87c8953527; ComponentLink3Description: Package Specification; ComponentLink3URL: http://www.infineon.com/dgdl/BTS117_DS_14.pdf?folderId=db3a30431400ef68011421b54e2e0564&fileId=db3a30433a747525013abff8302d549c&location=en.Products.Automotive_ICs.Smart_High-_and_Low-Side_Switches.HITFET___TEMPFET__-_Smart_Low-Side_Switches.DATASHEET.BTS117_DS_14.pdf
footprint INF-PG-TO220-3-1 (FM, 3-Leads, Body 10x4.4mm, Pitch 2.54mm)
pins: 1 G, 2 C, 3 E

## SGP10N60A
designator Q?
Fast IGBT in NPT-Technology, PG-TO220-3-1, Tube, Green; Manufacturer: Infineon; PartNumber: SGP10N60A; Green: TRUE; IC(max) @ 100 degC: 10.6 A; IC(max) @ 25 degC: 20 A; Switching Frequency: Fast IGBT 10-40 kHz; VCE (max): 600 V; VCE(sat) (typ): 2.3 V; DatasheetVersion: Rev. 2.4; PackageVersion: Jul-12; PackageReference: PG-TO220-3-1; PackageDescription: 3-Pin Plastic (Green) Transistor Single Outline Package, 10 x 9.25 mm Body, 2.54 mm Pitch; Supplier 1: Mouser; Supplier Part Number 1: 726-SGP10N60A; Supplier 2: Digi-Key; Supplier Part Number 2: SGP10N60A-ND; Halogen-free: TRUE; Packing: Tube; Mounting Technology: Through Hole; ComponentLink1Description: Manufacturer URL; ComponentLink1URL: http://www.infineon.com/; ComponentLink2Description: Datasheet; ComponentLink2URL: http://www.infineon.com/dgdl/SGP_W10N60A_Rev2_4G%5B1%5D.pdf?folderId=db3a3043156fd5730115f56849b61941&fileId=db3a304323b87bc20123b8b269210047; ComponentLink3Description: Package Specification; ComponentLink3URL: http://www.infineon.com/dgdl/BTS117_DS_14.pdf?folderId=db3a30431400ef68011421b54e2e0564&fileId=db3a30433a747525013abff8302d549c&location=en.Products.Automotive_ICs.Smart_High-_and_Low-Side_Switches.HITFET___TEMPFET__-_Smart_Low-Side_Switches.DATASHEET.BTS117_DS_14.pdf
footprint INF-PG-TO220-3-1 (FM, 3-Leads, Body 10x4.4mm, Pitch 2.54mm)
pins: 1 G, 2 C, 3 E

## SGP15N60
designator Q?
Fast IGBT in NPT-Technology, PG-TO220-3-1, Tube, Green; Manufacturer: Infineon; PartNumber: SGP15N60; Green: TRUE; IC(max) @ 100 degC: 15 A; IC(max) @ 25 degC: 31 A; Switching Frequency: Fast IGBT 10-40 kHz; VCE (max): 600 V; VCE(sat) (typ): 2.3 V; DatasheetVersion: Rev. 2.3; PackageVersion: Jul-12; PackageReference: PG-TO220-3-1; PackageDescription: 3-Pin Plastic (Green) Transistor Single Outline Package, 10 x 9.25 mm Body, 2.54 mm Pitch; Supplier 1: Mouser; Supplier Part Number 1: 726-SGP15N60; Supplier 2: Digi-Key; Supplier Part Number 2: SGP15N60-ND; Halogen-free: TRUE; Packing: Tube; Mounting Technology: Through Hole; ComponentLink1Description: Manufacturer URL; ComponentLink1URL: http://www.infineon.com/; ComponentLink2Description: Datasheet; ComponentLink2URL: http://www.infineon.com/dgdl/SGP_W15N60_Rev2_3G%5B1%5D.pdf?folderId=db3a3043156fd5730115f56849b61941&fileId=db3a304323b87bc20123b8b8b77b005b; ComponentLink3Description: Package Specification; ComponentLink3URL: http://www.infineon.com/dgdl/BTS117_DS_14.pdf?folderId=db3a30431400ef68011421b54e2e0564&fileId=db3a30433a747525013abff8302d549c&location=en.Products.Automotive_ICs.Smart_High-_and_Low-Side_Switches.HITFET___TEMPFET__-_Smart_Low-Side_Switches.DATASHEET.BTS117_DS_14.pdf
footprint INF-PG-TO220-3-1 (FM, 3-Leads, Body 10x4.4mm, Pitch 2.54mm)
pins: 1 G, 2 C, 3 E

## SGP15N120
designator Q?
Fast IGBT in NPT-Technology, PG-TO220-3-1, Tube, Green; Manufacturer: Infineon; PartNumber: SGP15N120; Green: TRUE; IC(max) @ 100 degC: 15 A; IC(max) @ 25 degC: 30 A; Switching Frequency: Fast IGBT 10-40 kHz; VCE (max): 1,200 V; VCE(sat) (typ): 3.7 V; DatasheetVersion: Rev. 2.5; PackageVersion: Jul-12; PackageReference: PG-TO220-3-1; PackageDescription: 3-Pin Plastic (Green) Transistor Single Outline Package, 10 x 9.25 mm Body, 2.54 mm Pitch; Supplier 1: Mouser; Supplier Part Number 1: 726-SGP15N120; Supplier 2: Digi-Key; Supplier Part Number 2: SGP15N120-ND; Halogen-free: TRUE; Packing: Tube; Mounting Technology: Through Hole; ComponentLink1Description: Manufacturer URL; ComponentLink1URL: http://www.infineon.com/; ComponentLink2Description: Datasheet; ComponentLink2URL: http://www.infineon.com/dgdl/SGP_W15N120_Rev2_5%5B1%5D.pdf?folderId=db3a3043156fd5730115f56849b61941&fileId=db3a304323b87bc20123bc8dd001353b; ComponentLink3Description: Package Specification; ComponentLink3URL: http://www.infineon.com/dgdl/BTS117_DS_14.pdf?folderId=db3a30431400ef68011421b54e2e0564&fileId=db3a30433a747525013abff8302d549c&location=en.Products.Automotive_ICs.Smart_High-_and_Low-Side_Switches.HITFET___TEMPFET__-_Smart_Low-Side_Switches.DATASHEET.BTS117_DS_14.pdf
footprint INF-PG-TO220-3-1 (FM, 3-Leads, Body 10x4.4mm, Pitch 2.54mm)
pins: 1 G, 2 C, 3 E

## SGP20N60
designator Q?
Fast IGBT in NPT-Technology, PG-TO220-3-1, Tube, Green; Manufacturer: Infineon; PartNumber: SGP20N60; Green: TRUE; IC(max) @ 100 degC: 20 A; IC(max) @ 25 degC: 40 A; Switching Frequency: Fast IGBT 10-40 kHz; VCE (max): 600 V; VCE(sat) (typ): 2.4 V; DatasheetVersion: Rev. 2.3; PackageVersion: Jul-12; PackageReference: PG-TO220-3-1; PackageDescription: 3-Pin Plastic (Green) Transistor Single Outline Package, 10 x 9.25 mm Body, 2.54 mm Pitch; Supplier 1: Mouser; Supplier Part Number 1: 726-SGP20N60; Supplier 2: Digi-Key; Supplier Part Number 2: SGP20N60-ND; Halogen-free: TRUE; Packing: Tube; Mounting Technology: Through Hole; ComponentLink1Description: Manufacturer URL; ComponentLink1URL: http://www.infineon.com/; ComponentLink2Description: Datasheet; ComponentLink2URL: http://www.infineon.com/dgdl/SGP_W20N60_Rev2_3G%5B1%5D.pdf?folderId=db3a3043156fd5730115f56849b61941&fileId=db3a304323b87bc20123b8c47716006f; ComponentLink3Description: Package Specification; ComponentLink3URL: http://www.infineon.com/dgdl/BTS117_DS_14.pdf?folderId=db3a30431400ef68011421b54e2e0564&fileId=db3a30433a747525013abff8302d549c&location=en.Products.Automotive_ICs.Smart_High-_and_Low-Side_Switches.HITFET___TEMPFET__-_Smart_Low-Side_Switches.DATASHEET.BTS117_DS_14.pdf
footprint INF-PG-TO220-3-1 (FM, 3-Leads, Body 10x4.4mm, Pitch 2.54mm)
pins: 1 G, 2 C, 3 E

## SGP20N60HS
designator Q?
High Speed IGBT in NPT-Technology, PG-TO220-3-1, Tube, Green; Manufacturer: Infineon; PartNumber: SGP20N60HS; Green: TRUE; IC(max) @ 100 degC: 20 A; IC(max) @ 25 degC: 36 A; Switching Frequency: HighSpeed 30-100 kHz; VCE (max): 600 V; VCE(sat) (typ): 3.5 V; DatasheetVersion: Rev. 2.4; PackageVersion: Jul-12; PackageReference: PG-TO220-3-1; PackageDescription: 3-Pin Plastic (Green) Transistor Single Outline Package, 10 x 9.25 mm Body, 2.54 mm Pitch; Supplier 1: Mouser; Supplier Part Number 1: 726-SGP20N60HS; Supplier 2: Digi-Key; Supplier Part Number 2: SGP20N60HS-ND; Halogen-free: TRUE; Packing: Tube; Mounting Technology: Through Hole; ComponentLink1Description: Manufacturer URL; ComponentLink1URL: http://www.infineon.com/; ComponentLink2Description: Datasheet; ComponentLink2URL: http://www.infineon.com/dgdl/SGP_W20N60HS_Rev2_4G%5B1%5D.pdf?folderId=db3a3043156fd5730115f56849b61941&fileId=db3a304323b87bc20123b8ddb8b7008c; ComponentLink3Description: Package Specification; ComponentLink3URL: http://www.infineon.com/dgdl/BTS117_DS_14.pdf?folderId=db3a30431400ef68011421b54e2e0564&fileId=db3a30433a747525013abff8302d549c&location=en.Products.Automotive_ICs.Smart_High-_and_Low-Side_Switches.HITFET___TEMPFET__-_Smart_Low-Side_Switches.DATASHEET.BTS117_DS_14.pdf
footprint INF-PG-TO220-3-1 (FM, 3-Leads, Body 10x4.4mm, Pitch 2.54mm)
pins: 1 G, 2 C, 3 E

## SGP30N60
designator Q?
Fast IGBT in NPT-Technology, PG-TO220-3-1, Tube, Green; Manufacturer: Infineon; PartNumber: SGP30N60; Green: TRUE; IC(max) @ 100 degC: 30 A; IC(max) @ 25 degC: 41 A; Switching Frequency: Fast IGBT 10-40 kHz; VCE (max): 600 V; VCE(sat) (typ): 2.5 V; DatasheetVersion: Rev. 2.3; PackageVersion: Jul-12; PackageReference: PG-TO220-3-1; PackageDescription: 3-Pin Plastic (Green) Transistor Single Outline Package, 10 x 9.25 mm Body, 2.54 mm Pitch; Supplier 1: Mouser; Supplier Part Number 1: 726-SGP30N60; Supplier 2: Digi-Key; Supplier Part Number 2: SGP30N60IN-ND; Halogen-free: TRUE; Packing: Tube; Mounting Technology: Through Hole; ComponentLink1Description: Manufacturer URL; ComponentLink1URL: http://www.infineon.com/; ComponentLink2Description: Datasheet; ComponentLink2URL: http://www.infineon.com/dgdl/SGP_W30N60_Rev2_3G%5B1%5D.pdf?folderId=db3a3043156fd5730115f56849b61941&fileId=db3a304323b87bc20123b8e3fe8c00b5; ComponentLink3Description: Package Specification; ComponentLink3URL: http://www.infineon.com/dgdl/BTS117_DS_14.pdf?folderId=db3a30431400ef68011421b54e2e0564&fileId=db3a30433a747525013abff8302d549c&location=en.Products.Automotive_ICs.Smart_High-_and_Low-Side_Switches.HITFET___TEMPFET__-_Smart_Low-Side_Switches.DATASHEET.BTS117_DS_14.pdf
footprint INF-PG-TO220-3-1 (FM, 3-Leads, Body 10x4.4mm, Pitch 2.54mm)
pins: 1 G, 2 C, 3 E